# Altium footprint library SC70-6.PcbLib: 1 footprints
Each footprint in its own frame and in the unit in brackets; x right, y up, seen from the top. Pads: shape width x height; smd on the part's side, far side on the other; paste and mask are expansions set on the pad; w line width, h text height; cw(c..) or ccw(c..) is an arc to the next point about the centre after c.
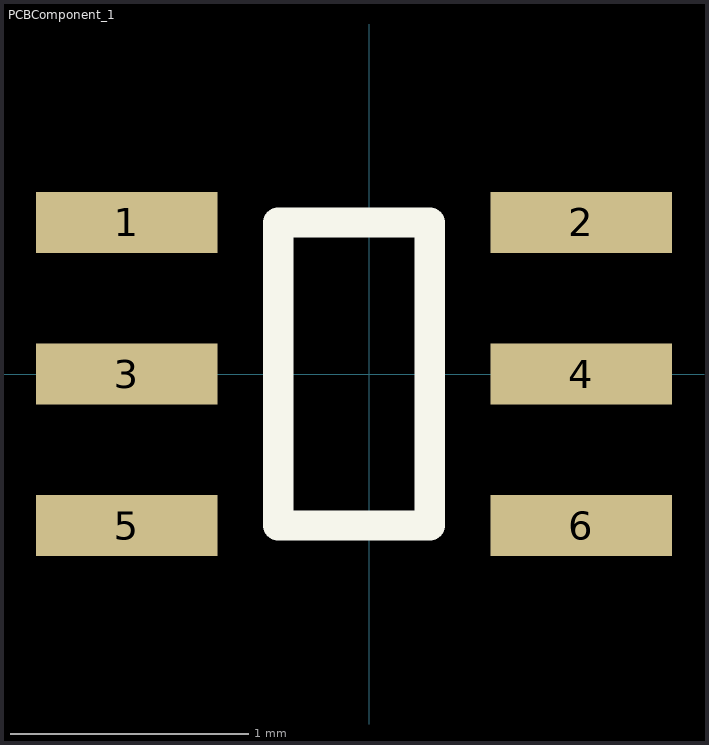
[diagram p0: the footprint, top view; thin cyan lines are the x and y axes]

## PCBComponent_1 [mil]
pads (6):
  rect 30x10 smd: 1(-40,25) 2(35,25) 3(-40,0) 4(35,0) 5(-40,-25) 6(35,-25)
Top Overlay:
  lines w5: -15,-25 10,-25 10,25 -15,25 -15,-25